# Altium footprint library WallLightRemote.PcbLib: 21 footprints (part 1 of 2)
Each footprint in its own frame and in the unit in brackets; x right, y up, seen from the top. Pads: shape width x height; smd on the part's side, far side on the other; paste and mask are expansions set on the pad; w line width, h text height; cw(c..) or ccw(c..) is an arc to the next point about the centre after c.
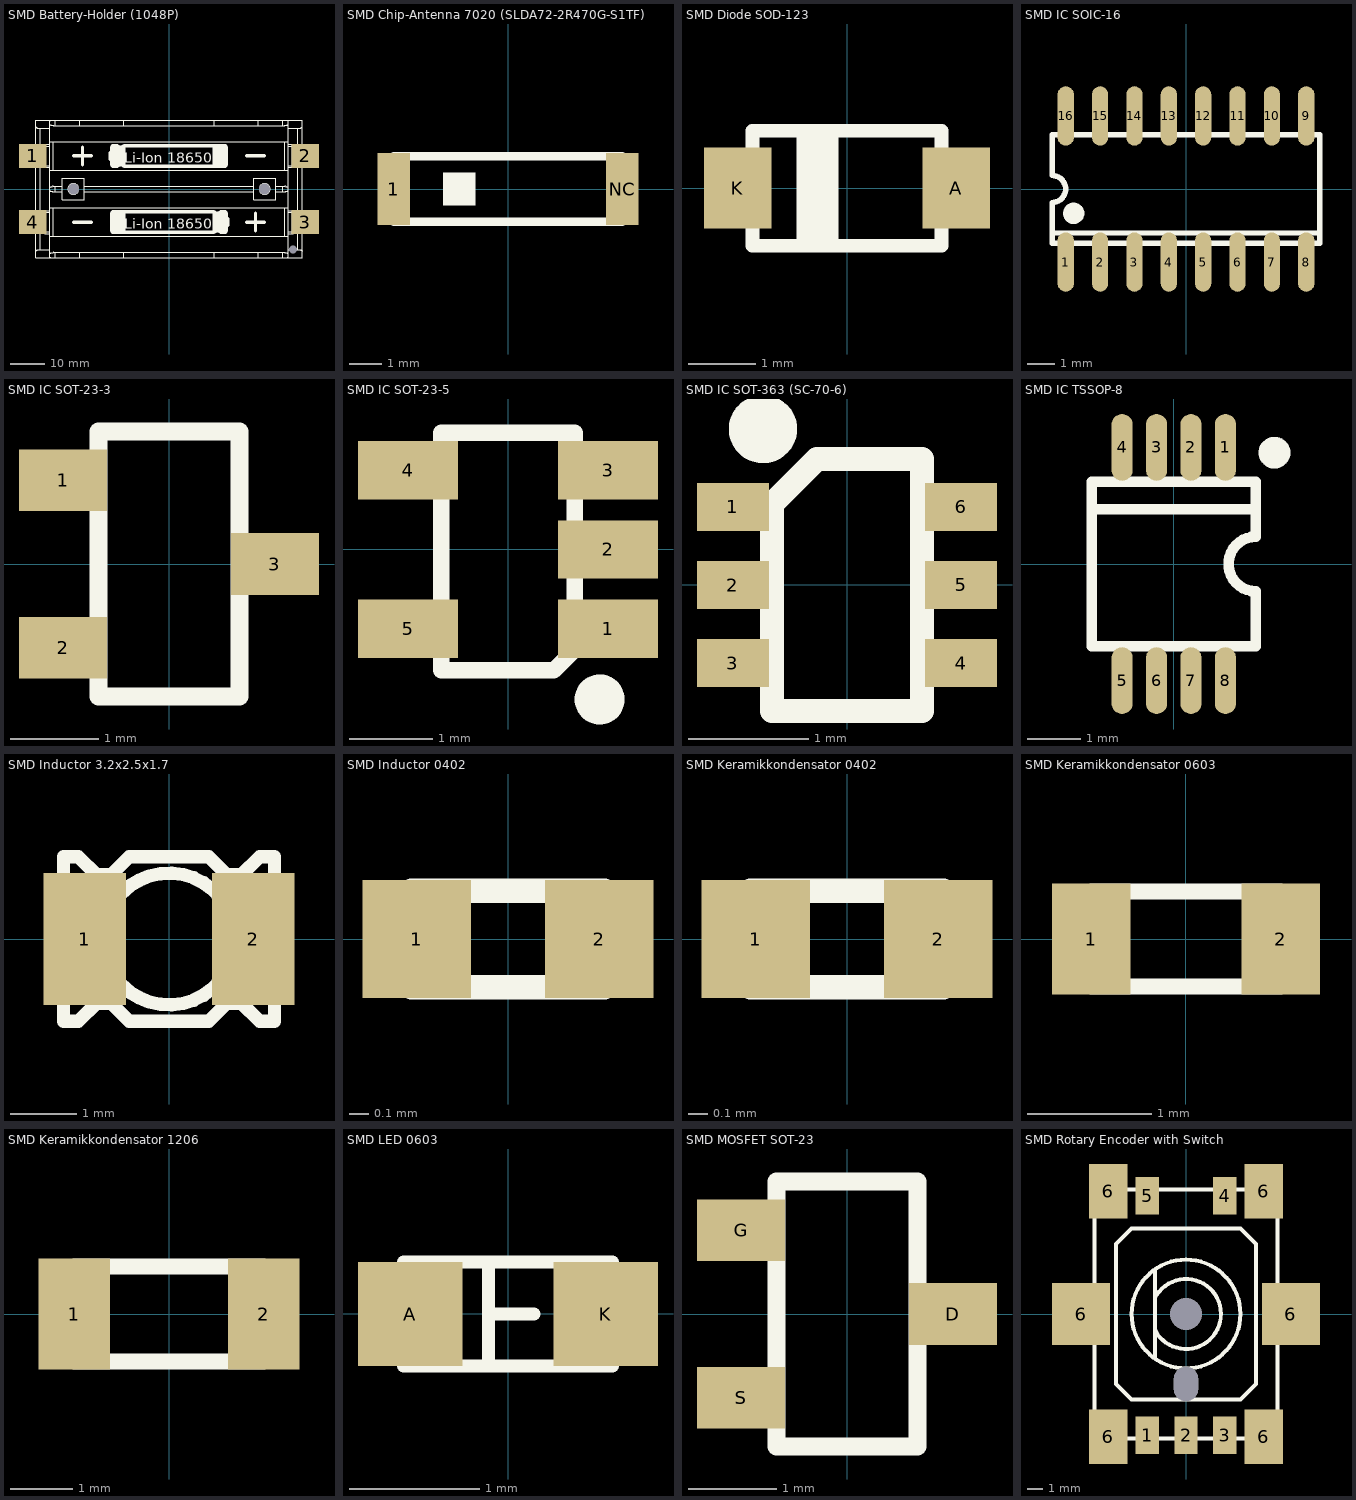
[diagram p0: the footprints below, top view; thin cyan lines are the x and y axes]

## SMD Battery-Holder (1048P) [mm]
pads (7):
  rect 8x7 smd: 1(-39.35,9.55) 2(39.35,9.55) 3(39.35,-9.55) 4(-39.35,-9.55)
  round 0 hole 3.2 unplated: NC(-27.6,0) NC(27.6,0)
  round 0 hole 2.4 unplated: NC(35.85,-17.5)
Top Overlay:
  drawing of 7051 lines, arcs and shapes, not listed
  text "Li-Ion 18650" at -13,-12.55 h5
  text "Li-Ion 18650" at -13,6.55 h5
3D body "INR18650-35E.step": height 18.65, standoff 0.35, extent -32.851,-18.7 32.851,-0.4
3D body "User Library-Blossom 1048.x_t": height 14.88, standoff -1.53, extent -43.002,-19.888 43.002,19.888
3D body "INR18650-35E.step": height 18.65, standoff 0.35, extent -32.851,0.4 32.851,18.7

## SMD Chip-Antenna 7020 (SLDA72-2R470G-S1TF) [mm]
pads (2):
  rect 1x2.2 smd: 1(-3.5,0) NC(3.5,0)
Top Overlay:
  rectangle: -2,-0.5 -1,0.5
  lines w0.254: -3.5,-1 3.5,-1 3.5,1 -3.5,1 -3.5,-1
3D body "User Library-1206 SMD Capacitor.step": height 1, standoff 0, extent -1.6,-0.8 1.6,0.8

## SMD Diode SOD-123 [mm] "SM LED; 2 Flat Leads"
height 1.3
pads (2):
  rect 1x1.2 smd: A(1.62,0) K(-1.62,0)
Top Overlay:
  region: -0.125,0.875 -0.75,0.875 -0.75,-0.9 -0.125,-0.9
  lines w0.2: -1.4,-0.85 1.4,-0.85 ; -1.4,0.85 1.4,0.85
  lines w0.203: -1.4,-0.85 -1.4,0.85 ; 1.4,-0.85 1.4,0.85
3D body "User Library-SOD-123_DiodesInc.step": height 1.42, standoff -0.03, extent -1.925,-0.85 1.925,0.85

## SMD IC SOIC-16 [mm]
height 2
pads (16):
  oval 0.6x2.2 smd: 1(-4.445,-2.7) 2(-3.175,-2.7) 3(-1.905,-2.7) 4(-0.635,-2.7) 5(0.635,-2.7) 6(1.905,-2.7) 7(3.175,-2.7) 8(4.445,-2.7) 9(4.445,2.7) 10(3.175,2.7) 11(1.905,2.7) 12(0.635,2.7) 13(-0.635,2.7) 14(-1.905,2.7) 15(-3.175,2.7) 16(-4.445,2.7)
Top Overlay:
  circle w0.406: c-4.15,-0.9 r0.191
  lines w0.2: -4.95,-2 4.95,-2 4.95,2 -4.95,2 ; -4.95,-1.625 4.95,-1.625
  lines w0.203: -4.95,-2 -4.95,-0.5 ccw(c-4.95,0) -4.95,0.5 -4.95,2
3D body "User Library-SOIC-16-1.step": height 1.4, standoff 0, extent -4.95,-3 4.95,3

## SMD IC SOT-23-3 [mm]
pads (3):
  rect 1x0.7 smd: 1(-1.2,0.95) 2(-1.2,-0.95) 3(1.2,0)
Top Overlay:
  lines w0.203: -0.8,-1.5 0.8,-1.5 0.8,1.5 -0.8,1.5 -0.8,-1.5
3D body "CircuitWorks-SOT-23.step": height 1.1, standoff 0, extent -1.301,-1.5 1.199,1.5

## SMD IC SOT-23-5 [mm] "SOT-223/SC-73; 4 Leads; Body 6.7 x 7.3 mm, inc. leads (LxW max)"
height 1.8
pads (5):
  rect 1.2x0.7 smd: 1(1.2,-0.95) 2(1.2,0) 3(1.2,0.95) 4(-1.2,0.95) 5(-1.2,-0.95)
Top Overlay:
  circle w0.4: c1.1,-1.8 r0.1
  lines w0.2: -0.8,-1.45 -0.8,1.4 0.8,1.4 0.8,-1.2 0.55,-1.45 -0.8,-1.45
3D body "CircuitWorks-SOT-23-5.step": height 1.1, standoff 0, extent -1.301,-1.5 1.199,1.5

## SMD IC SOT-363 (SC-70-6) [mm]
pads (6):
  rect 0.6x0.4 smd: 1(-0.95,0.65) 2(-0.95,0) 3(-0.95,-0.65) 4(0.95,-0.65) 5(0.95,0) 6(0.95,0.65)
Top Overlay:
  circle w0.37: c-0.7,1.3 r0.1
  lines w0.203: -0.625,-1.05 0.625,-1.05 0.625,1.05 -0.25,1.05 -0.625,0.675 -0.625,-1.05
3D body "User Library-SC70-6.step": height 0.92, standoff -0.03, extent -1.05,-1 1.05,1

## SMD IC TSSOP-8 [mm] "Shrink Small Outline; 16 Leads; Body Width 4.4 mm; Pitch 0.65 mm"
height 1.1
pads (8):
  oval 0.4x1.26 smd: 1(0.975,2.2) 2(0.325,2.2) 3(-0.325,2.2) 4(-0.975,2.2) 5(-0.975,-2.2) 6(-0.325,-2.2) 7(0.325,-2.2) 8(0.975,-2.2)
Top Overlay:
  circle w0.35: c1.9,2.1 r0.125
  lines w0.2: -1.55,1.033 1.55,1.033 ; -1.55,-1.55 1.55,-1.55 1.55,-0.517 cw(c1.55,0) 1.55,0.517 1.55,1.55 -1.55,1.55 -1.55,-1.55
3D body "User Library-TSSOP-8 3_1x3_1.X_T": height 1.07, standoff -0.03, extent -1.55,-2.5 1.55,2.5

## SMD Inductor 3.2x2.5x1.7 [mm]
pads (2):
  rect 1.25x2 smd: 1(-1.275,0) 2(1.275,0)
Top Overlay:
  circle w0.203: c0,0 r1
  lines w0.203: -1.6,-1.25 -1.6,1.25 -1.375,1.25 -1.1,0.975 -0.875,0.975 -0.6,1.25 0,1.25 0.6,1.25 0.875,0.975 1.1,0.975 1.375,1.25 1.6,1.25 1.6,-1.25 1.375,-1.25 1.1,-0.975 0.875,-0.975 0.6,-1.25 0,-1.25 -0.6,-1.25 -0.875,-0.975 -1.1,-0.975 -1.375,-1.25 -1.6,-1.25
3D body "User Library-LQH32PN_sw.x_b": height 1.55, standoff 0, extent -1.6,-1.25 1.6,1.25

## SMD Inductor 0402 [mm]
pads (2):
  rect 0.57x0.62 smd: 1(-0.48,0) 2(0.48,0)
Top Overlay:
  lines w0.127: -0.508,-0.254 -0.508,0.254 0.508,0.254 0.508,-0.254 -0.508,-0.254
3D body "User Library-FB_1005.STEP": height 0.5, standoff 0, extent -0.5,-0.25 0.5,0.25

## SMD Keramikkondensator 0402 [mm]
pads (2):
  rect 0.57x0.62 smd: 1(-0.48,0) 2(0.48,0)
Top Overlay:
  lines w0.127: -0.508,-0.254 0.508,-0.254 0.508,0.254 -0.508,0.254 -0.508,-0.254
3D body "User Library-0402_Cap.STEP": height 0.51, standoff 0, extent -0.5,-0.25 0.5,0.25

## SMD Keramikkondensator 0603 [mil]
height 66.93
pads (2):
  rect 25x35 smd: 1(-30,0) 2(30,0)
Top Overlay:
  lines w5: -30,-15 30,-15 30,15 -30,15 -30,-15
3D body "User Library-0603_Cap.STEP": height 31.69, standoff 0, extent -31.49,-15.74 31.5,15.75

## SMD Keramikkondensator 1206 [mil]
pads (2):
  rect 45x70 smd: 1(-60,0) 2(60,0)
Top Overlay:
  lines w10: -60,-30 -60,30 60,30 60,-30 -60,-30
3D body "User Library-1206 SMD Capacitor.step": height 39.45, standoff 0, extent -62.98,-31.49 63,31.51

## SMD LED 0603 [mm] "SMD_LED_RED"
height 8.65
pads (2):
  rect 0.8x0.8 smd: A(-0.75,0) K(0.75,0)
Top Overlay:
  lines w0.1: -0.15,-0.4 -0.15,0.4 ; -0.15,0 0.2,0 ; -0.8,-0.4 0.8,-0.4 0.8,0.4 -0.8,0.4 -0.8,-0.4
3D body "User Library-LED SMD0603.step": height 0.68, standoff 0, extent -0.808,-0.368 0.842,0.357

## SMD MOSFET SOT-23 [mm]
pads (3):
  rect 1x0.7 smd: D(1.2,0) G(-1.2,0.95) S(-1.2,-0.95)
Top Overlay:
  lines w0.203: -0.8,-1.5 0.8,-1.5 0.8,1.5 -0.8,1.5 -0.8,-1.5
3D body "CircuitWorks-SOT-23.step": height 1.1, standoff 0, extent -1.301,-1.5 1.199,1.5

## SMD Rotary Encoder with Switch [mm]
pads (13):
  rect 1.5x2.4 smd: 1(-2.5,-7.8) 2(0,-7.8) 3(2.5,-7.8) 4(2.5,7.6) 5(-2.5,7.6)
  rect 3.75x4 smd: 6(-6.75,0) 6(6.75,0)
  rect 2.5x3.5 smd: 6(-5,-7.9) 6(-5,7.9) 6(5,-7.9) 6(5,7.9)
  round 0 hole 1.55 slot 2.2 at 90 deg unplated: NC(0,-4.5)
  round 0 hole 2.05 unplated: NC(0,0)
Top Overlay:
  circle w0.254: c0,0 r3.5
  lines w0.254: -2.002,1.026 cw(c0,0) -1.992,-1.046 ; -2,-2.8 -2,2.8 ; -5.9,-8 -5.9,8 5.9,8 5.9,-8 -5.9,-8 ; -4.5,-4.5 -3.5,-5.5 0,-5.5 3.5,-5.5 4.5,-4.5 4.5,0 4.5,4.5 3.5,5.5 0,5.5 -3.5,5.5 -4.5,4.5 -4.5,0 -4.5,-4.5
3D body "70408639.x_t": height 14.2, standoff -1.1, extent -7.5,-9 7.5,9